# EAGLE library part LTC3895_STEP_DOWN_DC-DC_CONVERTER (library LTC3895)
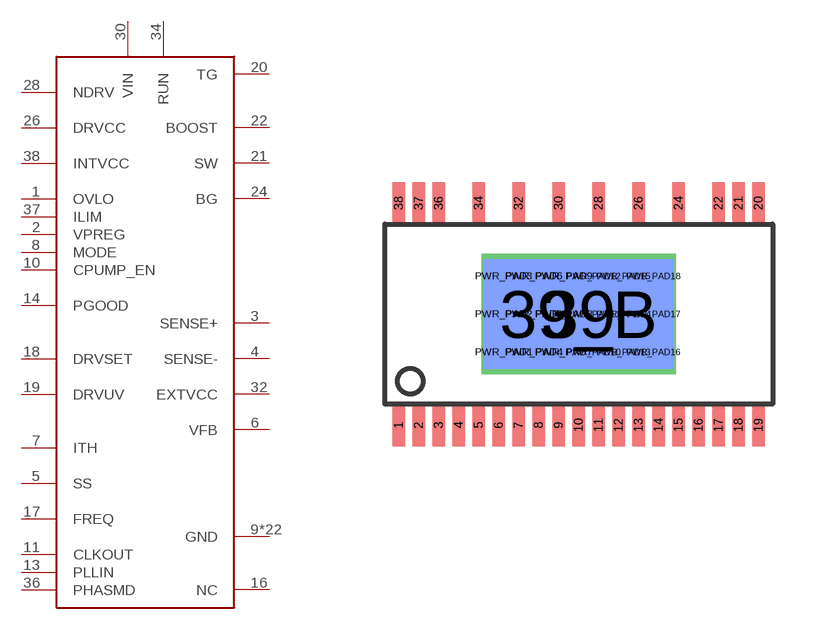
[diagram p0: symbol with the pads of 38_LEAD_TSSOP(FE38); footprint 38_LEAD_TSSOP(FE38)]

Designator prefix -

## LTC3895_STEP_DOWN_DC-DC_CONVERTERSMD_TSSOP  [38_LEAD_TSSOP(FE38)]
1  OVLO
2  VPREG
3  SENSE+
4  SENSE-
5  SS
6  VFB
7  ITH
8  MODE
9  GND
10  CPUMP_EN
11  CLKOUT
12  GND
13  PLLIN
14  PGOOD
15  GND
16  NC
17  FREQ
18  DRVSET
19  DRVUV
20  TG
21  SW
22  BOOST
24  BG
26  DRVCC
28  NDRV
30  VIN
32  EXTVCC
34  RUN
36  PHASMD
37  ILIM
38  INTVCC
39  GND
PWR_PAD1  GND
PWR_PAD2  GND
PWR_PAD3  GND
PWR_PAD4  GND
PWR_PAD5  GND
PWR_PAD6  GND
PWR_PAD7  GND
PWR_PAD8  GND
PWR_PAD9  GND
PWR_PAD10  GND
PWR_PAD11  GND
PWR_PAD12  GND
PWR_PAD13  GND
PWR_PAD14  GND
PWR_PAD15  GND
PWR_PAD16  GND
PWR_PAD17  GND
PWR_PAD18  GND

## Footprint 38_LEAD_TSSOP(FE38) (pad centres in mm)
LTC3895 FE Package Package Variation: FE38 (31) 38-Lead Plastic TSSOP (4.4mm) (Reference LTC DWG # 05-08-1865 Rev B) Exposed Pad Variation AB
smd 0.315 x 1.05: 1 0.35,-0.525; 2 0.85,-0.525; 3 1.35,-0.525; 4 1.85,-0.525; 5 2.35,-0.525; 6 2.85,-0.525; 7 3.35,-0.525; 8 3.85,-0.525; 9 4.35,-0.525; 10 4.85,-0.525; 11 5.35,-0.525; 12 5.85,-0.525; 13 6.35,-0.525; 14 6.85,-0.525; 15 7.35,-0.525; 16 7.85,-0.525; 17 8.35,-0.525; 18 8.85,-0.525; 19 9.35,-0.525; 20 9.35,5.025; 21 8.85,5.025; 22 8.35,5.025; 24 7.35,5.025; 26 6.35,5.025; 28 5.35,5.025; 30 4.35,5.025; 32 3.35,5.025; 34 2.35,5.025; 36 1.35,5.025; 37 0.85,5.025; 38 0.35,5.025
smd 4.75 x 2.74: 39 4.85,2.25
smd 4.75 x 2.74 bottom: 39_B 4.85,2.25
drill 0.6 pad 0.75 square: PWR_PAD1 2.975,1.3; PWR_PAD2 2.975,2.25; PWR_PAD3 2.975,3.2; PWR_PAD4 3.725,1.3; PWR_PAD5 3.725,2.25; PWR_PAD6 3.725,3.2; PWR_PAD7 4.475,1.3; PWR_PAD8 4.475,2.25; PWR_PAD9 4.475,3.2; PWR_PAD10 5.225,1.3; PWR_PAD11 5.225,2.25; PWR_PAD12 5.225,3.2; PWR_PAD13 5.975,1.3; PWR_PAD14 5.975,2.25; PWR_PAD15 5.975,3.2; PWR_PAD16 6.725,1.3; PWR_PAD17 6.725,2.25; PWR_PAD18 6.725,3.2